# Altium footprint library DPAK254P1540X460-3N_STPS5045SG-TR.PcbLib: 1 footprints
Each footprint in its own frame and in the unit in brackets; x right, y up, seen from the top. Pads: shape width x height; smd on the part's side, far side on the other; paste and mask are expansions set on the pad; w line width, h text height; cw(c..) or ccw(c..) is an arc to the next point about the centre after c.
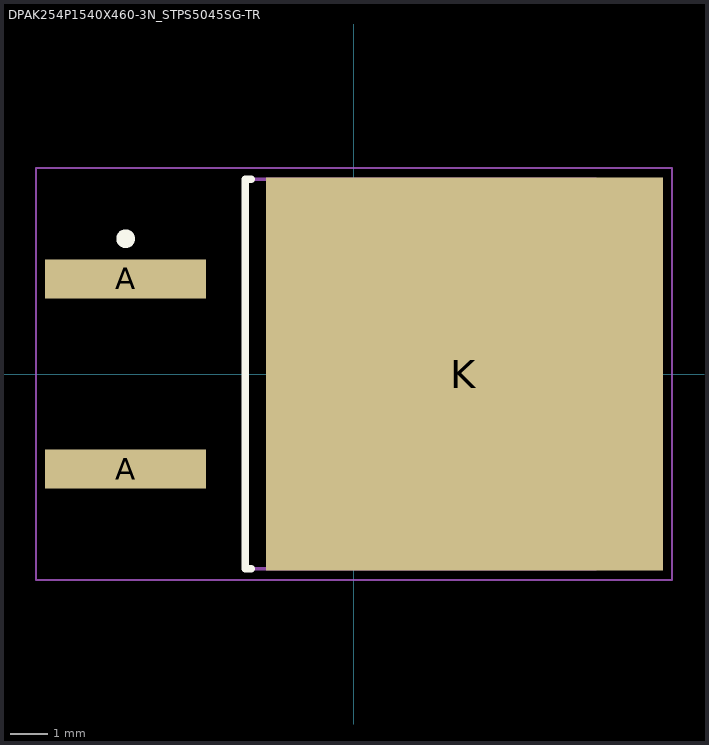
[diagram p0: the footprint, top view; thin cyan lines are the x and y axes]

## DPAK254P1540X460-3N_STPS5045SG-TR [mm] "D2-PAK, 3-Pads, Body 7.78x8.56mm (max), IPC Medium Density"
height 4.6
pads (3):
  rect 4.3x1.05 smd: A(-6.1,-2.54) A(-6.1,2.54)
  rect 10.6x10.5 smd: K(2.95,0)
Top Overlay:
  circle w0.25: c-6.1,3.615 r0.125
  lines w0.2: -2.75,-5.2 -2.9,-5.2 -2.9,5.2 -2.75,5.2
Top Assembly:
  lines w0.1: -2.9,-5.2 -2.9,5.2 6.45,5.2 6.45,-5.2 -2.9,-5.2
Top Courtyard:
  lines w0.05: -8.5,-5.5 -8.5,5.5 8.5,5.5 8.5,-5.5 -8.5,-5.5
  lines w0.1: -0.5,0 0.5,0 ; 0,-0.5 0,0.5
3D body "DPAK254P1540X460-3N.step": height 4.6, standoff 0, extent -7.265,-5.2 8.135,5.2